# EAGLE library part F30BUS_MALE (library Atari)
F30 BUS MALE (50+30pins)
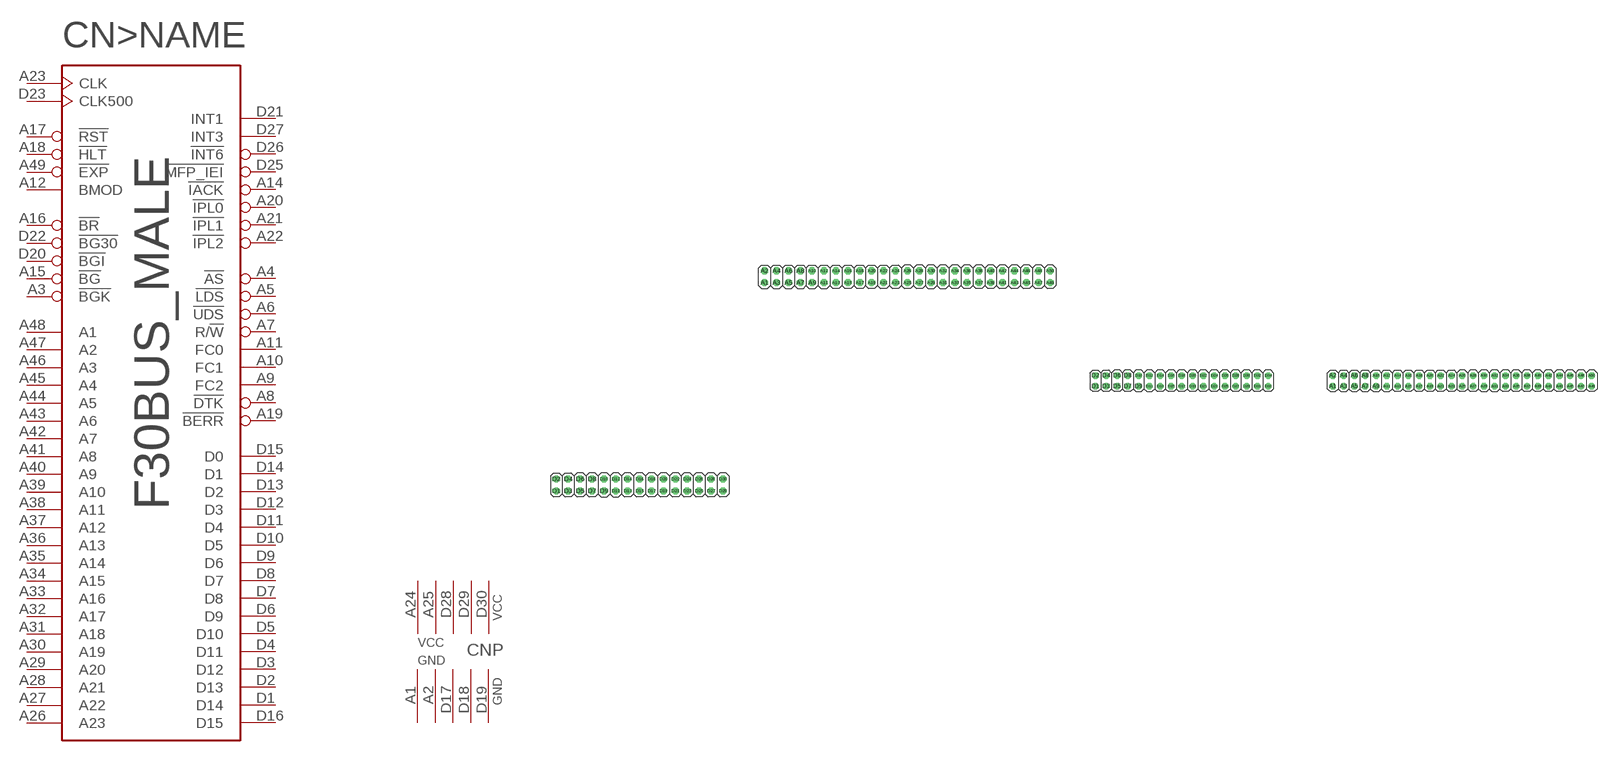
[diagram p1: symbol with the pads of HE13_MALE_(50+30PINS); footprints HE13_MALE_(50+30PINS), HE13_MALE_VMEF30]

Designator prefix CN; gates >NAME=F30BUS_MALE P=5PWR5GND

## F30BUS_MALE  [HE13_MALE_(50+30PINS)]
A1  P:GND  pwr
A2  P:GND  pwr
A3  >NAME:!BGK
A4  >NAME:!AS
A5  >NAME:!LDS
A6  >NAME:!UDS
A7  >NAME:R/!W
A8  >NAME:!DTK
A9  >NAME:FC2
A10  >NAME:FC1
A11  >NAME:FC0
A12  >NAME:BMOD  pas
A14  >NAME:!IACK  pas
A15  >NAME:!BG  in
A16  >NAME:!BR
A17  >NAME:!RST  in
A18  >NAME:!HLT
A19  >NAME:!BERR  in
A20  >NAME:!IPL0  pas
A21  >NAME:!IPL1  pas
A22  >NAME:!IPL2  pas
A23  >NAME:CLK  in
A24  P:VCC  pwr
A25  P:VCC  pwr
A26  >NAME:A23
A27  >NAME:A22
A28  >NAME:A21
A29  >NAME:A20
A30  >NAME:A19
A31  >NAME:A18
A32  >NAME:A17
A33  >NAME:A16
A34  >NAME:A15
A35  >NAME:A14
A36  >NAME:A13
A37  >NAME:A12
A38  >NAME:A11
A39  >NAME:A10
A40  >NAME:A9
A41  >NAME:A8
A42  >NAME:A7
A43  >NAME:A6
A44  >NAME:A5
A45  >NAME:A4
A46  >NAME:A3
A47  >NAME:A2
A48  >NAME:A1
A49  >NAME:!EXP  out
D1  >NAME:D14
D2  >NAME:D13
D3  >NAME:D12
D4  >NAME:D11
D5  >NAME:D10
D6  >NAME:D9
D7  >NAME:D8
D8  >NAME:D7
D9  >NAME:D6
D10  >NAME:D5
D11  >NAME:D4
D12  >NAME:D3
D13  >NAME:D2
D14  >NAME:D1
D15  >NAME:D0
D16  >NAME:D15
D17  P:GND  pwr
D18  P:GND  pwr
D19  P:GND  pwr
D20  >NAME:!BGI  out
D21  >NAME:INT1  pas
D22  >NAME:!BG30  in
D23  >NAME:CLK500  pas
D25  >NAME:!MFP_IEI  pas
D26  >NAME:!INT6  pas
D27  >NAME:INT3  pas
D28  P:VCC  pwr
D29  P:VCC  pwr
D30  P:VCC  pwr

## F30BUS_MALEVME  [HE13_MALE_VMEF30]
Pads as for HE13_MALE_(50+30PINS)

## Footprint HE13_MALE_(50+30PINS) (pad centres in mm)
HE13 Male (50+30pins)
drill 1.016 octagon: A1 -1.27,-1.27; A2 -1.27,1.27; A3 1.27,-1.27; A4 1.27,1.27; A5 3.81,-1.27; A6 3.81,1.27; A7 6.35,-1.27; A8 6.35,1.27; A9 8.89,-1.27; A10 8.89,1.27; A11 11.43,-1.27; A12 11.43,1.27; A13 13.97,-1.27; A14 13.97,1.27; A15 16.51,-1.27; A16 16.51,1.27; A17 19.05,-1.27; A18 19.05,1.27; A19 21.59,-1.27; A20 21.59,1.27; A21 24.13,-1.27; A22 24.13,1.27; A23 26.67,-1.27; A24 26.67,1.27; A25 29.21,-1.27; A26 29.21,1.27; A27 31.75,-1.27; A28 31.75,1.27; A29 34.29,-1.27; A30 34.29,1.27; A31 36.83,-1.27; A32 36.83,1.27; A33 39.37,-1.27; A34 39.37,1.27; A35 41.91,-1.27; A36 41.91,1.27; A37 44.45,-1.27; A38 44.45,1.27; A39 46.99,-1.27; A40 46.99,1.27; A41 49.53,-1.27; A42 49.53,1.27; A43 52.07,-1.27; A44 52.07,1.27; A45 54.61,-1.27; A46 54.61,1.27; A47 57.15,-1.27; A48 57.15,1.27; A49 59.69,-1.27; A50 59.69,1.27; D1 -45.72,-45.72; D2 -45.72,-43.18; D3 -43.18,-45.72; D4 -43.18,-43.18; D5 -40.64,-45.72; D6 -40.64,-43.18; D7 -38.1,-45.72; D8 -38.1,-43.18; D9 -35.56,-45.72; D10 -35.56,-43.18; D11 -33.02,-45.72; D12 -33.02,-43.18; D13 -30.48,-45.72; D14 -30.48,-43.18; D15 -27.94,-45.72; D16 -27.94,-43.18; D17 -25.4,-45.72; D18 -25.4,-43.18; D19 -22.86,-45.72; D20 -22.86,-43.18; D21 -20.32,-45.72; D22 -20.32,-43.18; D23 -17.78,-45.72; D24 -17.78,-43.18; D25 -15.24,-45.72; D26 -15.24,-43.18; D27 -12.7,-45.72; D28 -12.7,-43.18; D29 -10.16,-45.72; D30 -10.16,-43.18

## Footprint HE13_MALE_VMEF30 (pad centres in mm)
HE13 MALE 2x15 + 2x25 for VME-F30 Adapter
drill 1.016 octagon: A1 7.62,-1.27; A2 7.62,1.27; A3 10.16,-1.27; A4 10.16,1.27; A5 12.7,-1.27; A6 12.7,1.27; A7 15.24,-1.27; A8 15.24,1.27; A9 17.78,-1.27; A10 17.78,1.27; A11 20.32,-1.27; A12 20.32,1.27; A13 22.86,-1.27; A14 22.86,1.27; A15 25.4,-1.27; A16 25.4,1.27; A17 27.94,-1.27; A18 27.94,1.27; A19 30.48,-1.27; A20 30.48,1.27; A21 33.02,-1.27; A22 33.02,1.27; A23 35.56,-1.27; A24 35.56,1.27; A25 38.1,-1.27; A26 38.1,1.27; A27 40.64,-1.27; A28 40.64,1.27; A29 43.18,-1.27; A30 43.18,1.27; A31 45.72,-1.27; A32 45.72,1.27; A33 48.26,-1.27; A34 48.26,1.27; A35 50.8,-1.27; A36 50.8,1.27; A37 53.34,-1.27; A38 53.34,1.27; A39 55.88,-1.27; A40 55.88,1.27; A41 58.42,-1.27; A42 58.42,1.27; A43 60.96,-1.27; A44 60.96,1.27; A45 63.5,-1.27; A46 63.5,1.27; A47 66.04,-1.27; A48 66.04,1.27; A49 68.58,-1.27; A50 68.58,1.27; D1 -48.26,-1.27; D2 -48.26,1.27; D3 -45.72,-1.27; D4 -45.72,1.27; D5 -43.18,-1.27; D6 -43.18,1.27; D7 -40.64,-1.27; D8 -40.64,1.27; D9 -38.1,-1.27; D10 -38.1,1.27; D11 -35.56,-1.27; D12 -35.56,1.27; D13 -33.02,-1.27; D14 -33.02,1.27; D15 -30.48,-1.27; D16 -30.48,1.27; D17 -27.94,-1.27; D18 -27.94,1.27; D19 -25.4,-1.27; D20 -25.4,1.27; D21 -22.86,-1.27; D22 -22.86,1.27; D23 -20.32,-1.27; D24 -20.32,1.27; D25 -17.78,-1.27; D26 -17.78,1.27; D27 -15.24,-1.27; D28 -15.24,1.27; D29 -12.7,-1.27; D30 -12.7,1.27; D31 -10.16,-1.27; D32 -10.16,1.27; D33 -7.62,-1.27; D34 -7.62,1.27